# Altium schematic symbol library BW1098OBC_R2M0E2.SchLib: 2 symbols
Pins are listed as number, name and electrical type; pins without a type are passive.

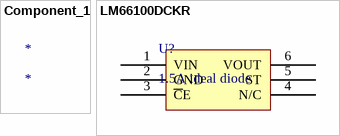
[diagram p0: symbols Component_1 to LM66100DCKR]

## Component_1
designator *

## LM66100DCKR
designator U?, comment 1.5A ideal diode
IC OR CTRLR IDEAL DIODE SC70-6; Manufacturer 1: Texas Instruments; Manufacturer Part Number 1: LM66100DCKR; Description: IC OR CTRLR IDEAL DIODE SC70-6 OR Controller  P-Channel 1:1 SC-70-6; Supplier 1: Digi-Key; RoHS: No; Category: Integrated Circuits (ICs); Stock 1: 8042; Pricing 1: 1=0.41000, 10=0.32900, 25=0.30120, 100=0.20300, 250=0.16800, 500=0.15400, 1000=0.11550 (USD); Supplier 2: Digi-Key; Supplier 3: Mouser; Supplier 4: Arrow; Supplier Part Number 1: 296-53541-1-ND; Supplier Part Number 3: 595-LM66100DCKR; Supplier Part Number 2: 296-53541-2-ND; Supplier Part Number 4: LM66100DCKR
footprint LM66100DCKR (SOT23, 6-Leads, Body 2.00x2.10mm, Pitch 0.65mm, IPC Medium Density)
pins: 1 VIN "Device input", 2 GND "Device ground", 3 ~{C}E "Active-low chip enable. Can be connected to VOUT for reverse current protection. Do not", 4 N/C "Not internally connected, can be tied to GND or left floating.", 5 ST "Active-low open-drain output, pulled low when the chip is disabled. Hi-Z when the chip is", 6 VOUT "Device output"